# Altium schematic symbol library CAP_10nF_0603.SchLib: 1 symbol
Pins are listed as number, name and electrical type; pins without a type are passive.

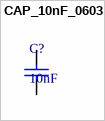
[diagram p0: symbol CAP_10nF_0603]

## CAP_10nF_0603
designator C?, comment 10nF
10000 pF ±5% 16V Ceramic Capacitor X8R 0603 (1608 Metric); Supplier 1: Digi-Key; Supplier Part Number 1: 399-C0603X103J4HAC7867CT-ND
footprint Cap_0603_M (Yageo KEMET Maximum Density (Level A) Footprint, reference at pate centre. Datasheet: https://www.yageogroup.com/content/datasheet/asset/file/KEM_C1006_X5R_SMD)
footprint Cap_0603_N (Yageo KEMET Nominal Density Footprint using Nominal Land Protusion (Level B), reference at pate centre. Datasheet: https://www.yageogroup.com/content/datasheet/asset/file/KEM_C1006_X5R_SMD)
pins: 1, 2